# EAGLE library part MYRIO-CONNECTOR (library PiB_connectors)
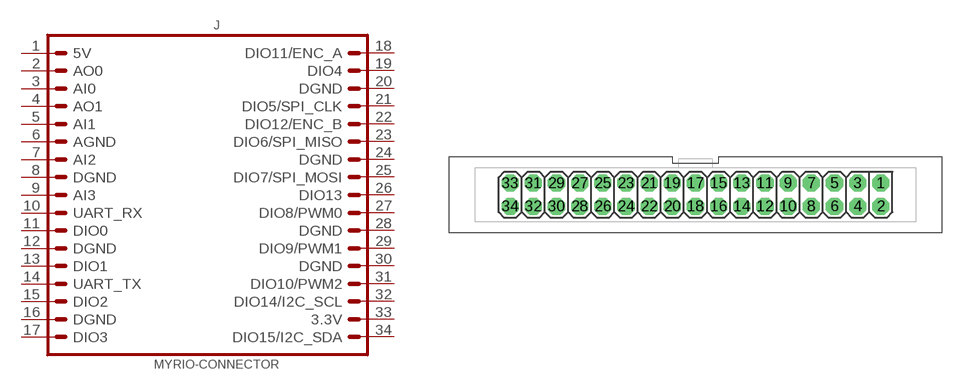
[diagram p7: symbol with the pads of 2X17-MYRIO-CONNECTOR; footprint 2X17-MYRIO-CONNECTOR]

Designator prefix J

## MYRIO-CONNECTORFEMALE-SHROUDED (DATASHEET: https://media.digikey.com/pdf/Data%20Sheets/Sullins%20PDFs/SFH11-PxxC-Dxx-ST-xx%2011160-C.pdf; DIST: Digikey; DISTLINK: https://www.digikey.com/products/en?keywords=S9199-ND; DISTPN: S9199-ND; MFR: Sullins Connector Solutions; MPN: SFH11-PBPC-D17-ST-BK; VALUE: 02x17)  [2X17-MYRIO-CONNECTOR]
1  5V
2  AO0
3  AI0
4  AO1
5  AI1
6  AGND
7  AI2
8  DGND
9  AI3
10  UART_RX
11  DIO0
12  DGND
13  DIO1
14  UART_TX
15  DIO2
16  DGND
17  DIO3
18  DIO11/ENC_A
19  DIO4
20  DGND
21  DIO5/SPI_CLK
22  DIO12/ENC_B
23  DIO6/SPI_MISO
24  DGND
25  DIO7/SPI_MOSI
26  DIO13
27  DIO8/PWM0
28  DGND
29  DIO9/PWM1
30  DGND
31  DIO10/PWM2
32  DIO14/I2C_SCL
33  3.3V
34  DIO15/I2C_SDA

## Footprint 2X17-MYRIO-CONNECTOR (pad centres in mm)
drill 1.016 pad 1.88 octagon: 1 20.32,1.27; 2 20.32,-1.27; 3 17.78,1.27; 4 17.78,-1.27; 5 15.24,1.27; 6 15.24,-1.27; 7 12.7,1.27; 8 12.7,-1.27; 9 10.16,1.27; 10 10.16,-1.27; 11 7.62,1.27; 12 7.62,-1.27; 13 5.08,1.27; 14 5.08,-1.27; 15 2.54,1.27; 16 2.54,-1.27; 17 0,1.27; 18 0,-1.27; 19 -2.54,1.27; 20 -2.54,-1.27; 21 -5.08,1.27; 22 -5.08,-1.27; 23 -7.62,1.27; 24 -7.62,-1.27; 25 -10.16,1.27; 26 -10.16,-1.27; 27 -12.7,1.27; 28 -12.7,-1.27; 29 -15.24,1.27; 30 -15.24,-1.27; 31 -17.78,1.27; 32 -17.78,-1.27; 33 -20.32,1.27; 34 -20.32,-1.27